# Altium footprint library USB.PcbLib: 28 footprints (part 1 of 2)
Each footprint in its own frame and in the unit in brackets; x right, y up, seen from the top. Pads: shape width x height; smd on the part's side, far side on the other; paste and mask are expansions set on the pad; w line width, h text height; cw(c..) or ccw(c..) is an arc to the next point about the centre after c.
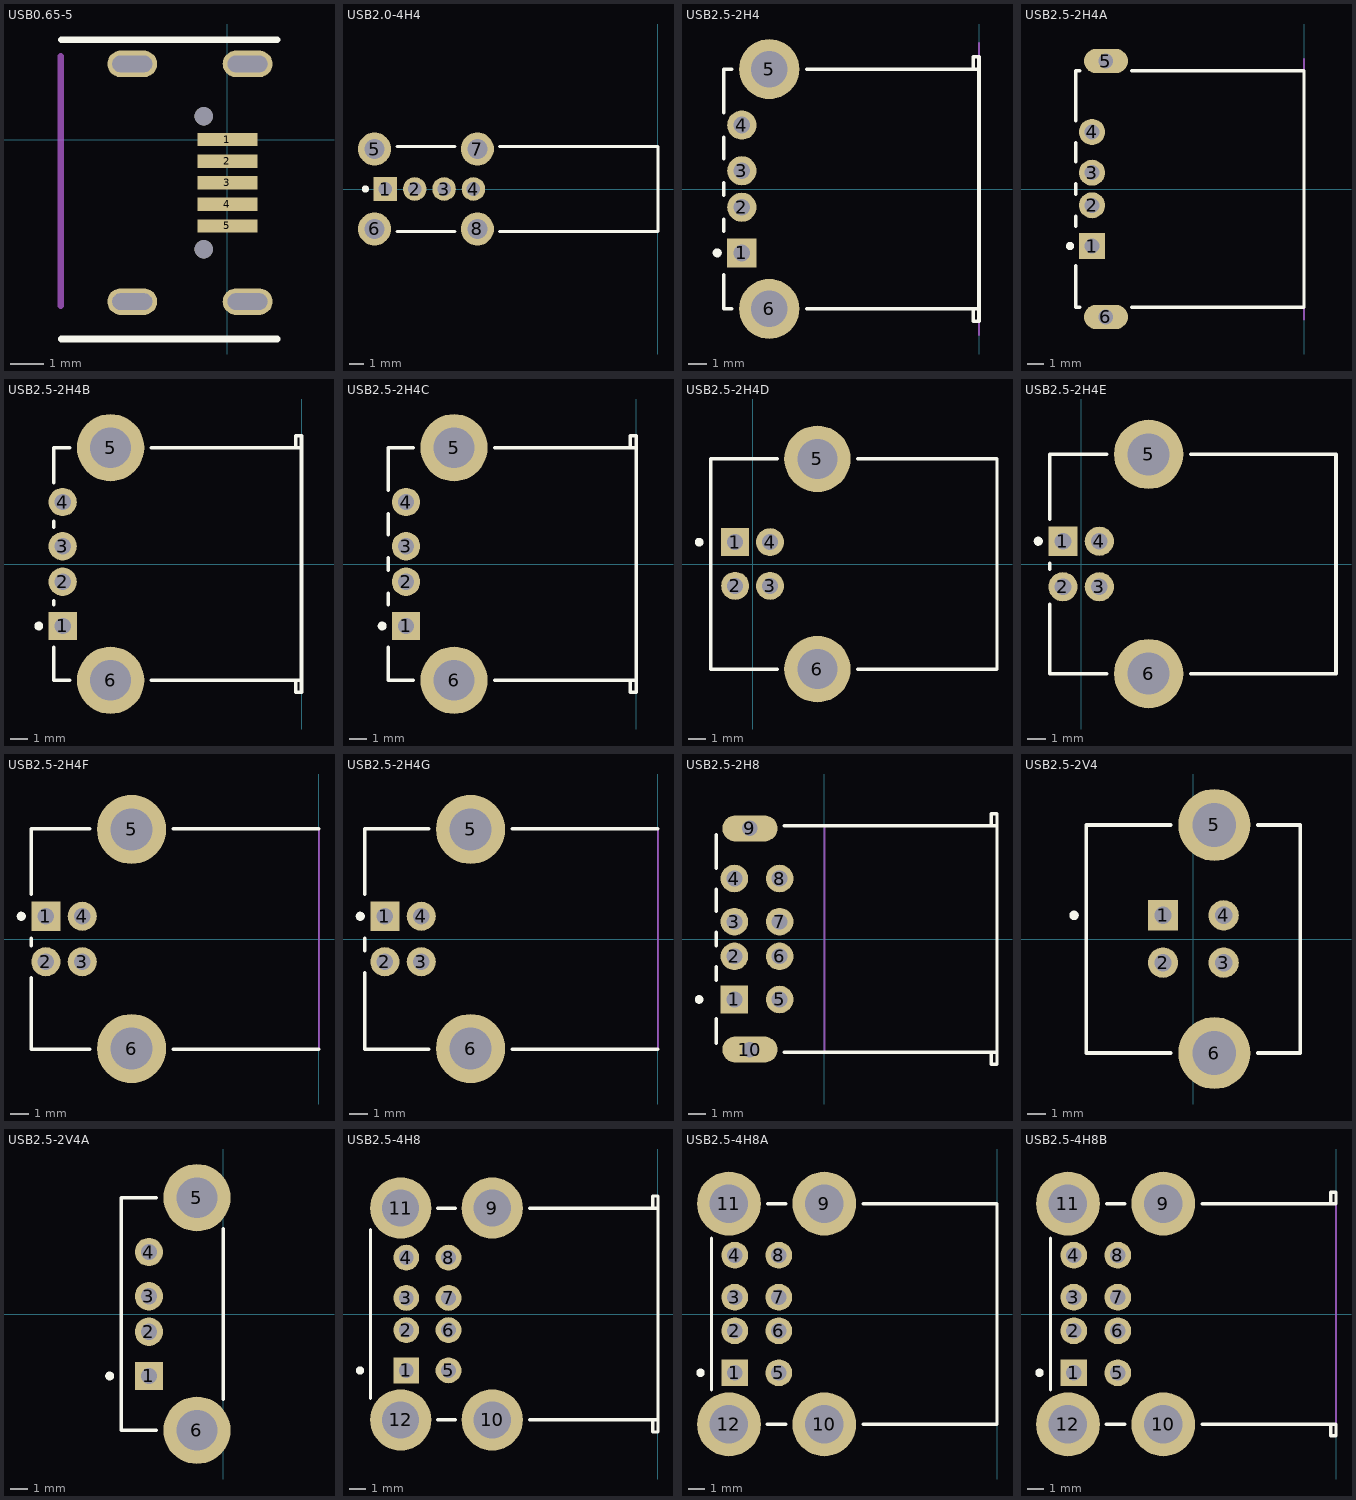
[diagram p0: the footprints below, top view; thin cyan lines are the x and y axes]

## USB0.65-5 [mm]
pads (11):
  rect 1.8x0.4 smd: 1(0,0) 2(0,-0.65) 3(0,-1.3) 4(0,-1.95) 5(0,-2.6)
  oval 1.5x0.8 hole 0.5 slot 1.2 at 0 deg: ""(-2.86,-4.875) ""(-2.86,2.275) ""(0.61,-4.875) ""(0.61,2.275)
  round 0.55 hole 0.55: ""(-0.71,-3.3) ""(-0.71,0.7)
Top Overlay:
  lines w0.2: -5,-6 1.5,-6 ; -5,3 1.5,3
Mechanical 1:
  lines w0.2: -5.01,-5 -5.01,2.5
  text "PCB EDGE" at -4.5,-5 h0.25

## USB2.0-4H4 [mm] "Connector; USB1.1, Type A, Thru-Hole; 4 Position; Right Angle"
height 13.83
pads (8):
  rect 1.6x1.6 hole 0.92: 1(-18.56,0)
  round 1.6 hole 0.92: 2(-16.56,0) 3(-14.56,0) 4(-12.56,0)
  round 2.25 hole 1.35: 5(-19.29,2.72) 6(-19.29,-2.72) 7(-12.29,2.72) 8(-12.29,-2.72)
Top Overlay:
  circle w0.25: c-19.91,0 r0.125
  lines w0.2: -17.773,-2.88 -13.807,-2.88 ; -17.773,2.88 -13.807,2.88 ; -10.773,-2.88 0,-2.88 0,2.88 -10.773,2.88

## USB2.5-2H4 [mm] "Connector; USB1.1, Series A, Reverse Type, Thru-Hole; 4 Position; Right Angle"
height 6.5
pads (6):
  rect 1.6x1.6 hole 0.92: 1(-13,-3.5)
  round 1.6 hole 0.92: 2(-13,-1) 3(-13,1) 4(-13,3.5)
  round 3.3 hole 2: 5(-11.5,6.57) 6(-11.5,-6.57)
Top Overlay:
  circle w0.25: c-14.35,-3.5 r0.125
  lines w0.2: -14,-4.7 -14,-6.565 -13.55,-6.565 ; -14,-2.3 -14,-1.67 ; -14,-0.33 -14,0.33 ; -14,1.67 -14,2.83 ; -14,4.17 -14,6.565 -13.55,6.565 ; -9.45,-6.565 0,-6.565 ; -9.45,6.565 0,6.565 ; -0.32,-6.565 -0.32,-7.25 0,-7.25 0,-6.565 ; -0.32,6.565 -0.32,7.25 0,7.25 0,6.565 ; 0,-6.565 0,6.565
Mechanical 1:
  lines w0.1: 0,-8 0,8
  text "PCB Edge" at -0.336,-6.303 h0.25

## USB2.5-2H4A [mm] "Connector; USB1.1, Series A, Reverse Type, Thru-Hole; 4 Position; Right Angle"
height 6.5
pads (6):
  rect 1.6x1.6 hole 0.92: 1(-13,-3.5)
  round 1.6 hole 0.92: 2(-13,-1) 3(-13,1) 4(-13,3.5)
  oval 2.7x1.5 hole 0.9: 5(-12.15,7.85) 6(-12.15,-7.85)
Top Overlay:
  circle w0.25: c-14.35,-3.5 r0.125
  lines w0.2: -14,-4.7 -14,-7.25 -13.74,-7.25 ; -14,-2.3 -14,-1.67 ; -14,-0.33 -14,0.33 ; -14,1.67 -14,2.83 ; -14,4.17 -14,7.25 -13.74,7.25 ; -10.56,-7.25 0,-7.25 0,7.25 -10.56,7.25
Mechanical 1:
  lines w0.1: 0,-8 0,8 ; -12.75,-8.3 cw(c-12.75,-7.85) -12.75,-7.4 -11.55,-7.4 cw(c-11.55,-7.85) -11.55,-8.3 -12.75,-8.3 ; -12.75,7.4 cw(c-12.75,7.85) -12.75,8.3 -11.55,8.3 cw(c-11.55,7.85) -11.55,7.4 -12.75,7.4
  text "Alert PCB fab to slot details" at -13.587,10.715 h0.5
  text "Slot 0.9x1.2mm, PTH" at -13.587,9.72 h0.5
  text "Assign keep-out area to slot" at -13.587,11.668 h0.5
  text "PCB Edge" at -0.324,-6.966 h0.25
Mechanical 2:
  lines w0.9: -12.75,-7.85 -11.55,-7.85 ; -12.75,7.85 -11.55,7.85
  text "Remove" at -12.786,7.836 h0.2
  text "Remove" at -12.734,-7.929 h0.2

## USB2.5-2H4B [mm] "Connector; USB1.1, Type A, Thru-Hole; 4 Position; Right Angle"
height 7.01
pads (6):
  rect 1.6x1.6 hole 0.92: 1(-13.49,-3.5)
  round 1.6 hole 0.92: 2(-13.49,-1) 3(-13.49,1) 4(-13.49,3.5)
  round 3.8 hole 2.3: 5(-10.78,6.57) 6(-10.78,-6.57)
Top Overlay:
  circle w0.25: c-14.84,-3.5 r0.125
  lines w0.2: -14,-4.7 -14,-6.565 -13.08,-6.565 ; -14,-2.3 -14,-2.09 ; -14,2.09 -14,2.41 ; -14,4.59 -14,6.565 -13.08,6.565 ; -8.48,-6.565 0,-6.565 ; -8.48,6.565 0,6.565 ; -0.32,-6.565 -0.32,-7.25 0,-7.25 0,-6.565 ; -0.32,6.565 -0.32,7.25 0,7.25 0,6.565 ; 0,-6.565 0,6.565

## USB2.5-2H4C [mm] "Connector; USB1.1, Reverse Type, Thru-Hole; 4 Position; Right Angle"
height 6.95
pads (6):
  rect 1.6x1.6 hole 0.92: 1(-12.99,-3.5)
  round 1.6 hole 0.92: 2(-12.99,-1) 3(-12.99,1) 4(-12.99,3.5)
  round 3.8 hole 2.3: 5(-10.28,6.57) 6(-10.28,-6.57)
Top Overlay:
  circle w0.25: c-14.34,-3.5 r0.125
  lines w0.2: -14,-4.7 -14,-6.565 -12.58,-6.565 ; -14,-2.3 -14,-1.66 ; -14,-0.34 -14,0.34 ; -14,1.66 -14,2.84 ; -14,4.16 -14,6.565 -12.58,6.565 ; -7.98,-6.565 0,-6.565 ; -7.98,6.565 0,6.565 ; -0.32,-6.565 -0.32,-7.25 0,-7.25 0,-6.565 ; -0.32,6.565 -0.32,7.25 0,7.25 0,6.565 ; 0,-6.565 0,6.565

## USB2.5-2H4D [mm] "Connector; USB1.1, Type B, Thru-Hole; 4 Position; Right Angle"
height 11.05
pads (6):
  rect 1.6x1.6 hole 0.92: 1(-1,1.25)
  round 1.6 hole 0.92: 2(-1,-1.25) 3(1,-1.25) 4(1,1.25)
  round 3.8 hole 2.3: 5(3.71,6.02) 6(3.71,-6.02)
Top Overlay:
  circle w0.25: c-3.06,1.25 r0.125
  lines w0.2: 1.41,-6.02 -2.41,-6.02 -2.41,6.02 1.41,6.02 ; 6.01,-6.02 13.99,-6.02 13.99,6.02 6.01,6.02

## USB2.5-2H4E [mm] "Connector; USB1.1, Type B, Thru-Hole; 4 Position; Right Angle"
height 11.5
pads (6):
  rect 1.6x1.6 hole 0.92: 1(-1,1.25)
  round 1.6 hole 0.92: 2(-1,-1.25) 3(1,-1.25) 4(1,1.25)
  round 3.8 hole 2.3: 5(3.71,6.02) 6(3.71,-6.02)
Top Overlay:
  circle w0.25: c-2.35,1.25 r0.125
  lines w0.2: -1.72,-2.21 -1.72,-6.02 1.41,-6.02 ; -1.72,-0.29 -1.72,0.05 ; -1.72,2.45 -1.72,6.02 1.41,6.02 ; 6.01,-6.02 13.99,-6.02 13.99,6.02 6.01,6.02

## USB2.5-2H4F [mm] "Connector; USB1.1, Type B, Thru-Hole; 4 Position; Right Angle"
height 10.95
pads (6):
  rect 1.6x1.6 hole 0.92: 1(-15.01,1.25)
  round 1.6 hole 0.92: 2(-15.01,-1.25) 3(-13.01,-1.25) 4(-13.01,1.25)
  round 3.8 hole 2.3: 5(-10.3,6.02) 6(-10.3,-6.02)
Top Overlay:
  circle w0.25: c-16.36,1.25 r0.125
  lines w0.2: -15.82,-2.14 -15.82,-6.05 -12.6,-6.05 ; -15.82,-0.36 -15.82,0.05 ; -15.82,2.45 -15.82,6.05 -12.6,6.05 ; -8,-6.05 -0.02,-6.05 ; -8,6.05 -0.02,6.05
Mechanical 1:
  lines w0.1: 0,-6.05 0,6.05
  text "PCB Edge" at -0.325,-5.651 h0.25

## USB2.5-2H4G [mm] "Connector; USB1.1, Type B, Thru-Hole; 4 Position; Right Angle"
height 10.95
pads (6):
  rect 1.6x1.6 hole 0.92: 1(-15.01,1.25)
  round 1.6 hole 0.92: 2(-15.01,-1.25) 3(-13.01,-1.25) 4(-13.01,1.25)
  round 3.8 hole 2.3: 5(-10.3,6.02) 6(-10.3,-6.02)
Top Overlay:
  circle w0.25: c-16.36,1.25 r0.125
  lines w0.2: -16.12,-1.85 -16.12,-6.05 -12.6,-6.05 ; -16.12,-0.65 -16.12,0.05 ; -16.12,2.45 -16.12,6.05 -12.6,6.05 ; -8,-6.05 -0.02,-6.05 ; -8,6.05 -0.02,6.05
Mechanical 1:
  lines w0.1: 0,-6.05 0,6.05
  text "PCB Edge" at -0.325,-5.651 h0.25

## USB2.5-2H8 [mm] "Connector; USB1.1, Type A, Thru-Hole; 4x4 Position; Right Angle"
height 15.51
pads (10):
  rect 1.6x1.6 hole 0.92: 1(-5.21,-3.5)
  round 1.6 hole 0.92: 2(-5.21,-1) 3(-5.21,1) 4(-5.21,3.5) 5(-2.59,-3.5) 6(-2.59,-1) 7(-2.59,1) 8(-2.59,3.5)
  oval 3.2x1.5 hole 0.9: 9(-4.31,6.4) 10(-4.31,-6.4)
Top Overlay:
  circle w0.25: c-7.25,-3.5 r0.125
  lines w0.2: -6.25,-6.03 -6.25,-4.62 ; -6.25,-2.38 -6.25,-1.61 ; -6.25,-0.4 -6.25,0.4 ; -6.25,1.61 -6.25,2.88 ; -6.25,4.1 -6.25,6.03 ; -2.32,-6.55 9.99,-6.55 ; -2.32,6.55 9.99,6.55 ; 9.67,-6.55 9.67,-7.25 9.99,-7.25 9.99,-6.55 ; 9.67,6.55 9.67,7.25 9.99,7.25 9.99,6.55 ; 9.99,-6.55 9.99,6.55
Mechanical 1:
  lines w0.1: 0,-6.55 0,6.55 ; -5.16,-6.85 cw(c-5.16,-6.4) -5.16,-5.95 -3.46,-5.95 cw(c-3.46,-6.4) -3.46,-6.85 -5.16,-6.85 ; -5.16,5.95 cw(c-5.16,6.4) -5.16,6.85 -3.46,6.85 cw(c-3.46,6.4) -3.46,5.95 -5.16,5.95
  text "PCB Edge" at 0.347,-6.248 h0.2
  text "Assign keep-out area to slot" at -4.32,10.15 h0.5
  text "Slot 0.9x2.6mm, PTH" at -4.32,8.201 h0.5
  text "Alert PCB fab to slot details" at -4.32,9.196 h0.5
Mechanical 2:
  lines w0.9: -5.16,-6.4 -3.46,-6.4 ; -5.16,6.4 -3.46,6.4
  text "Remove" at -4.983,-6.476 h0.25
  text "Remove" at -5.049,6.337 h0.25

## USB2.5-2V4 [mm] "Connector; USB1.1, Type B, Thru-Hole; 4 Position; Vertical"
height 16
pads (6):
  rect 1.6x1.6 hole 0.92: 1(-1.6,1.25)
  round 1.6 hole 0.92: 2(-1.6,-1.25) 3(1.6,-1.25) 4(1.6,1.25)
  round 3.8 hole 2.3: 5(1.11,6.02) 6(1.11,-6.02)
Top Overlay:
  circle w0.25: c-6.3,1.25 r0.125
  lines w0.2: -1.19,-6.02 -5.65,-6.02 -5.65,6.02 -1.19,6.02 ; 3.41,-6.02 5.65,-6.02 5.65,6.02 3.41,6.02

## USB2.5-2V4A [mm] "Connector; USB1.1, Type A, Thru-Hole; 4 Position; Vertical"
height 15
pads (6):
  rect 1.6x1.6 hole 0.92: 1(-4.19,-3.5)
  round 1.6 hole 0.92: 2(-4.19,-1) 3(-4.19,1) 4(-4.19,3.5)
  round 3.8 hole 2.3: 5(-1.48,6.57) 6(-1.48,-6.57)
Top Overlay:
  circle w0.25: c-6.41,-3.5 r0.125
  lines w0.2: -3.78,-6.57 -5.76,-6.57 -5.76,6.57 -3.78,6.57 ; 0,-4.81 0,4.81

## USB2.5-4H8 [mm] "Connector; USB1.1, Type A, Thru-Hole; 4x4 Position; Right Angle"
height 15.82
pads (12):
  rect 1.6x1.6 hole 0.92: 1(-15.61,-3.5)
  round 1.6 hole 0.92: 2(-15.61,-1) 3(-15.61,1) 4(-15.61,3.5) 5(-12.99,-3.5) 6(-12.99,-1) 7(-12.99,1) 8(-12.99,3.5)
  round 3.8 hole 2.3: 9(-10.28,6.57) 10(-10.28,-6.57) 11(-15.96,6.57) 12(-15.96,-6.57)
Top Overlay:
  circle w0.25: c-18.48,-3.5 r0.125
  lines w0.2: -17.83,-5.23 -17.83,5.23 ; -13.66,-6.565 -12.58,-6.565 ; -13.66,6.565 -12.58,6.565 ; -7.97,-6.565 0,-6.565 ; -7.97,6.565 0,6.565 ; -0.32,-6.565 -0.32,-7.315 0,-7.315 0,-6.565 ; -0.32,6.565 -0.32,7.315 0,7.315 0,6.565 ; 0,-6.565 0,6.565

## USB2.5-4H8A [mm] "Connector; USB1.1, Type A, Thru-Hole; 4x4 Position; Right Angle"
height 15.51
pads (12):
  rect 1.6x1.6 hole 0.92: 1(-15.61,-3.5)
  round 1.6 hole 0.92: 2(-15.61,-1) 3(-15.61,1) 4(-15.61,3.5) 5(-12.99,-3.5) 6(-12.99,-1) 7(-12.99,1) 8(-12.99,3.5)
  round 3.8 hole 2.3: 9(-10.28,6.57) 10(-10.28,-6.57) 11(-15.96,6.57) 12(-15.96,-6.57)
Top Overlay:
  circle w0.25: c-17.65,-3.5 r0.125
  lines w0.2: -17,-4.51 -17,4.51 ; -13.68,-6.565 -12.58,-6.565 ; -13.66,6.565 -12.58,6.565 ; -7.97,-6.565 0,-6.565 0,6.565 -7.97,6.565

## USB2.5-4H8B [mm] "Connector; USB1.1, Type A, Thru-Hole; 4x4 Position; Right Angle"
height 15.82
pads (12):
  rect 1.6x1.6 hole 0.92: 1(-15.61,-3.5)
  round 1.6 hole 0.92: 2(-15.61,-1) 3(-15.61,1) 4(-15.61,3.5) 5(-12.99,-3.5) 6(-12.99,-1) 7(-12.99,1) 8(-12.99,3.5)
  round 3.8 hole 2.3: 9(-10.28,6.57) 10(-10.28,-6.57) 11(-15.96,6.57) 12(-15.96,-6.57)
Top Overlay:
  circle w0.25: c-17.65,-3.5 r0.125
  lines w0.2: -17,-4.51 -17,4.51 ; -13.68,-6.57 -12.58,-6.57 ; -13.66,6.57 -12.58,6.57 ; -7.97,-6.57 0,-6.57 0,-7.25 -0.32,-7.25 -0.32,-6.57 ; -7.97,6.57 0,6.57 0,7.25 -0.32,7.25 -0.32,6.57
Mechanical 1:
  lines w0.1: 0,-6.57 0,6.57
  text "PCB Edge" at -0.368,-6.15 h0.2